# Altium schematic symbol library X977T04.SchLib: 1 symbol
Pins are listed as number, name and electrical type; pins without a type are passive.

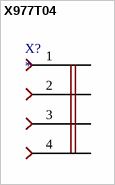
[diagram p0: symbol X977T04]

## X977T04
designator X?
footprint X977T04
pins: 1, 2, 3, 4